# Altium footprint library IND 330uH.PcbLib: 1 footprints
Each footprint in its own frame and in the unit in brackets; x right, y up, seen from the top. Pads: shape width x height; smd on the part's side, far side on the other; paste and mask are expansions set on the pad; w line width, h text height; cw(c..) or ccw(c..) is an arc to the next point about the centre after c.
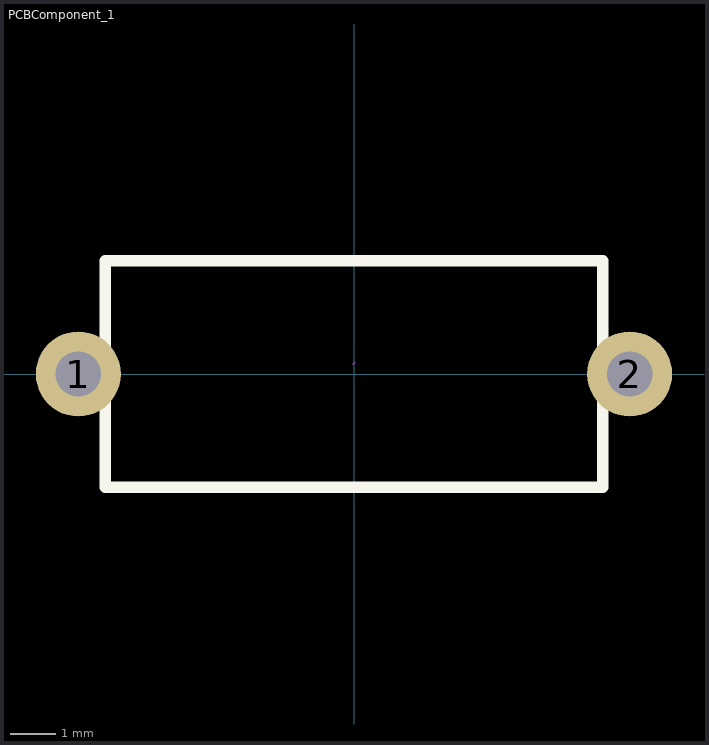
[diagram p0: the footprint, top view; thin cyan lines are the x and y axes]

## PCBComponent_1 [mil]
pads (2):
  round 74 hole 39.37: 1(-240,0) 2(240,0)
Top Overlay:
  lines w10: 216.53,96.85 216.53,-98.42 -216.53,-98.42 -216.53,98.42 216.53,98.42
Mechanical 15:
  lines w0.1: -1,8.54 1,10.54
3D body "User Library-figure_b_2.step": height 268, standoff -86.22, extent -274,-118 273.99,118